# EAGLE library part OPT3001 (library opt3001new)
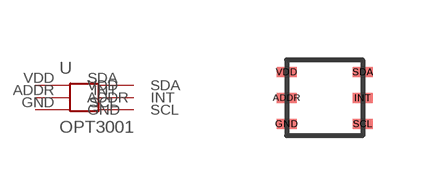
[diagram p0: symbol with the pads of OPT3001; footprint OPT3001]

Designator prefix -

## OPT3001  [OPT3001]
ADDR  ADDR
GND  GND
INT  INT
SCL  SCL
SDA  SDA
VDD  VDD

## Footprint OPT3001 (pad centres in mm)
smd 0.5 x 0.25: ADDR -0.95,0; GND -0.95,-0.65; INT 0.95,0; SCL 0.95,-0.65; SDA 0.95,0.65; VDD -0.95,0.65